# Altium footprint library QVSOP.PcbLib: 1 footprints
Each footprint in its own frame and in the unit in brackets; x right, y up, seen from the top. Pads: shape width x height; smd on the part's side, far side on the other; paste and mask are expansions set on the pad; w line width, h text height; cw(c..) or ccw(c..) is an arc to the next point about the centre after c.
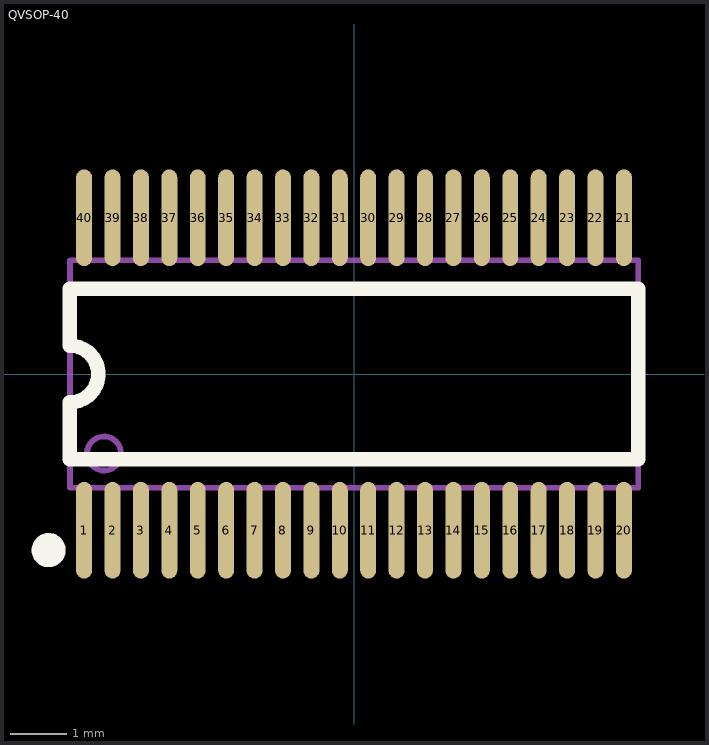
[diagram p0: the footprint, top view; thin cyan lines are the x and y axes]

## QVSOP-40 [mm] "EQU =SSOP-40, 150mil width"
pads (40):
  oval 0.28x1.7 smd mask+0.051: 1(-4.75,-2.75) 2(-4.25,-2.75) 3(-3.75,-2.75) 4(-3.25,-2.75) 5(-2.75,-2.75) 6(-2.25,-2.75) 7(-1.75,-2.75) 8(-1.25,-2.75) 9(-0.75,-2.75) 10(-0.25,-2.75) 11(0.25,-2.75) 12(0.75,-2.75) 13(1.25,-2.75) 14(1.75,-2.75) 15(2.25,-2.75) 16(2.75,-2.75) 17(3.25,-2.75) 18(3.75,-2.75) 19(4.25,-2.75) 20(4.75,-2.75) 21(4.75,2.75) 22(4.25,2.75) 23(3.75,2.75) 24(3.25,2.75) 25(2.75,2.75) 26(2.25,2.75) 27(1.75,2.75) 28(1.25,2.75) 29(0.75,2.75) 30(0.25,2.75) 31(-0.25,2.75) 32(-0.75,2.75) 33(-1.25,2.75) 34(-1.75,2.75) 35(-2.25,2.75) 36(-2.75,2.75) 37(-3.25,2.75) 38(-3.75,2.75) 39(-4.25,2.75) 40(-4.75,2.75)
Top Overlay:
  circle w0.3: c-5.375,-3.1 r0.15
  lines w0.254: -5,-1.5 5,-1.5 5,1.5 -5,1.5 -5,0.5 cw(c-5,0) -5,-0.5 -5,-1.5
Mechanical 13:
  circle w0.1: c-4.4,-1.4 r0.3
  lines w0.1: -5,-2 5,-2 5,2 -5,2 -5,-2